# EAGLE library part ML4POLE (library WB-ML Switches)
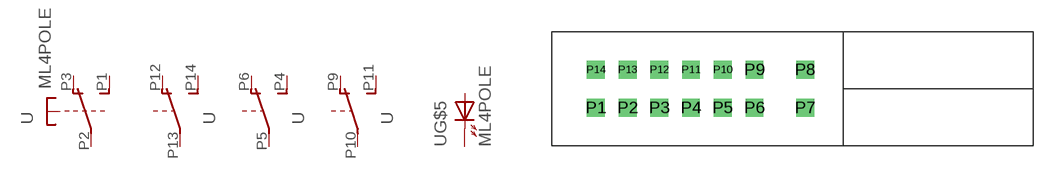
[diagram p2: symbol with the pads of 4POLE; footprint 4POLE]

Designator prefix -; gates G$1=TSU- G$2=U-2 G$3=U-2 G$4=U-2 G$5=LED

## ML4POLE  [4POLE]
P1  G$1:S  pas
P2  G$1:P  pas
P3  G$1:O  pas
P4  G$3:S  pas
P5  G$3:P  pas
P6  G$3:O  pas
P7  G$5:A  pas
P8  G$5:K  pas
P9  G$4:O  pas
P10  G$4:P  pas
P11  G$4:S  pas
P12  G$2:O  pas
P13  G$2:P  pas
P14  G$2:S  pas

## Footprint 4POLE (pad centres in mm)
drill 0.9 square: P1 -16.5,-1.5; P2 -14,-1.5; P3 -11.5,-1.5; P4 -9,-1.5; P5 -6.5,-1.5; P6 -4,-1.5; P7 0,-1.5; P8 0,1.5; P9 -4,1.5; P10 -6.5,1.5; P11 -9,1.5; P12 -11.5,1.5; P13 -14,1.5; P14 -16.5,1.5